# EAGLE library part RASPI_USB2 (library USSTCM)
Triple USB Connector Source: www.cypressindustries.com
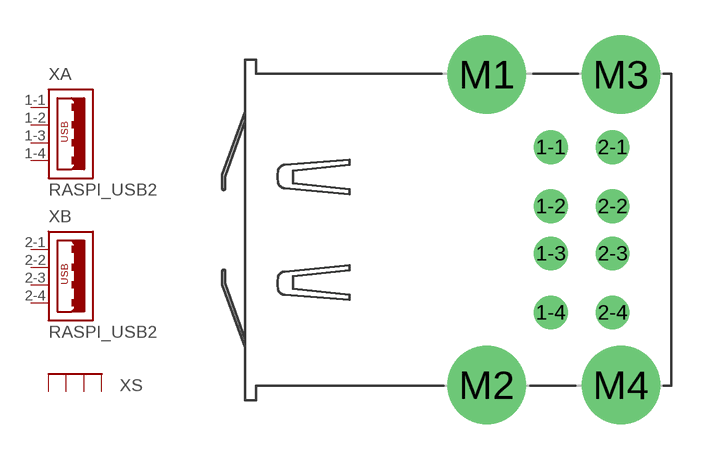
[diagram p11: symbol with the pads of RASPI_USB2; footprint RASPI_USB2]

Designator prefix X; gates A=RASPI_USB4 B=RASPI_USB4 S=RASPI_SHIELD4

## RASPI_USB2 (OC_FARNELL: unknown; OC_NEWARK: unknown)  [RASPI_USB2]
1-1  A:1  pas
1-2  A:2  pas
1-3  A:3  pas
1-4  A:4  pas
2-1  B:1  pas
2-2  B:2  pas
2-3  B:3  pas
2-4  B:4  pas
M1  S:S1  pas
M2  S:S2  pas
M3  S:S3  pas
M4  S:S4  pas

## Footprint RASPI_USB2 (pad centres in mm)
USB A TYPE TRIPLE R/A DIP Source: http://www.cypressindustries.com/pdf/85-32003-00x-1.pdf
drill 0.92 pad 1.27: 1-1 2.71,3.5; 1-2 2.71,1; 1-3 2.71,-1; 1-4 2.71,-3.5; 2-1 5.33,3.5; 2-2 5.33,1; 2-3 5.33,-1; 2-4 5.33,-3.5
drill 2.3 pad 3: M1 0,6.57; M2 0,-6.57; M3 5.68,6.57; M4 5.68,-6.57